# Altium schematic symbol library TMDX654GPEVM.SCHLIB: 339 symbols (part 6 of 6)
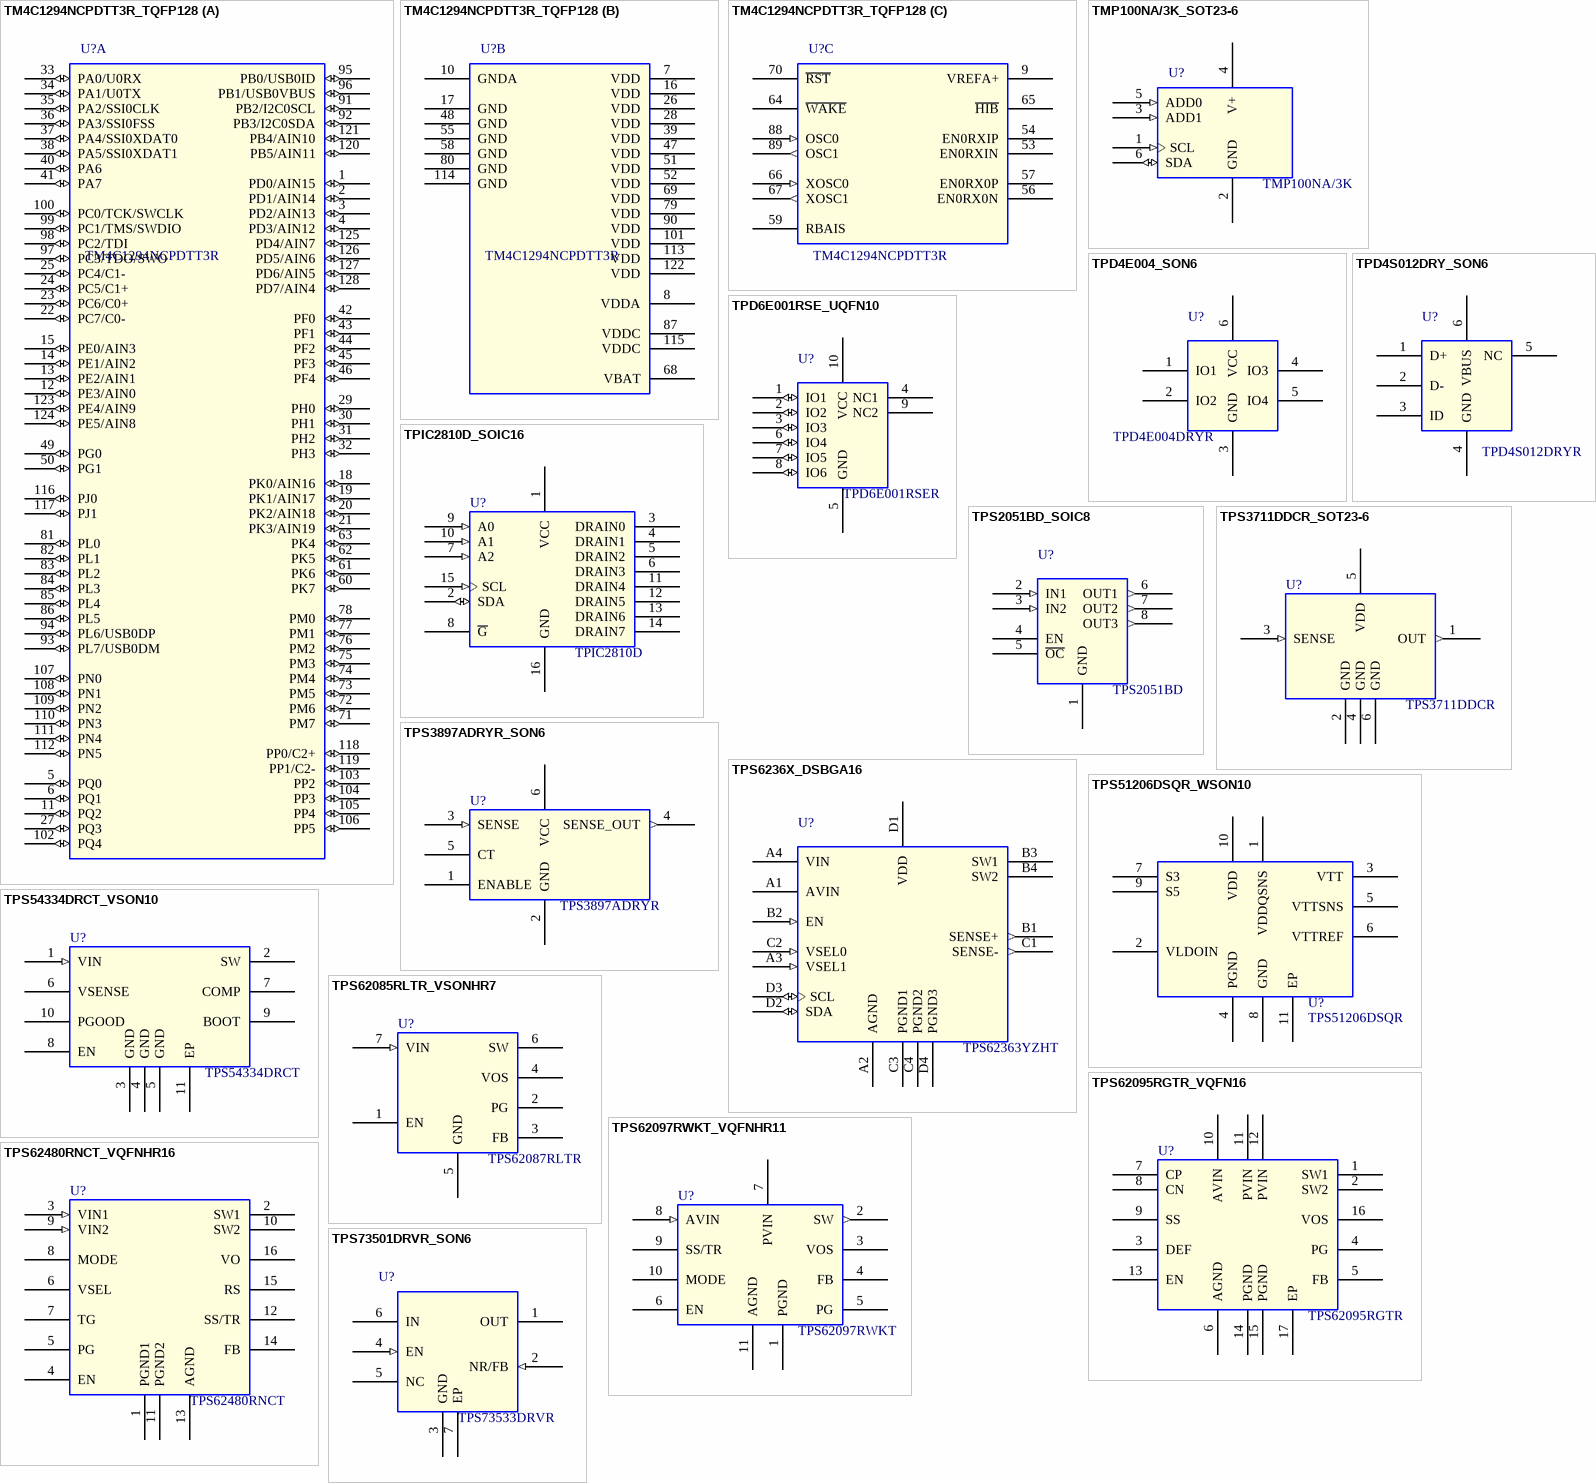
[diagram p25: symbols TM4C1294NCPDTT3R_TQFP128 to TPS73501DRVR_SON6]

## TPS51206DSQR_WSON10
designator U?, comment TPS51206DSQR
IC SINK/SOURCE DDR TERMINATION REGULATOR WSON10; Mistral Part No: 142017090016-R; Mfr_name: TEXAS INSTRUMENTS; Part_type: ICS\POWER\VOLTAGE REGULATOR; Project: TI_MAXIE_CPB; Tolerance: NA; Customs_HS_Code: 85423100; Custom_Duty: 15%; MECHANICAL 3D STEP FILE: DFN10_15-74_80X80_0-8; Library Ref: TPS51206DSQR_WSON10; Mfr_part_number: TPS51206DSQR; Voltage: NA; Wattage: NA; Package: WSON10; Distributor_name: DIGIKEY; Distributor_part_number: 296-28767-1-ND; Height: 0.80MM; Weight: NA; Temperature: -40°C+85°C; Datasheet: Y:\MIS_DATABASE\DATASHEETS\ICS\POWER\TPS51206.PDF; Crtd /date: MANIRAJA/220917; Chkd/date: MANIRAJA/220917; PCB Footprint: DFN10_15-74_80X80_0-8
footprint DFN10_15-74_80X80_0-8
pins: 1 VDDQSNS (power), 2 VLDOIN, 3 VTT, 4 PGND (power), 5 VTTSNS, 6 VTTREF, 7 S3, 8 GND (power), 9 S5, 10 VDD (power), 11 EP (power)

## TPS54334DRCT_VSON10
designator U?, comment TPS54334DRCT
IC 3A O/P CURRENT SYNCHRONOUS STEP DOWN VOLTAGE CONVERTER VSON10; Part_type: ICS\POWER\CONVERTER; Mfr_name: TEXAS INSTRUMENTS; Mistral Part No: 142017090024-R; MECHANICAL 3D STEP FILE: SON10_19-68_125X125_1; Custom_Duty: 15%; Customs_HS_Code: 85423100; Wattage: NA; Project: TI_MAXIE_CPB; Library Ref: TPS54334DRCT_VSON10; Chkd/date: MANIRAJA/270917; Crtd /date: MANIRAJA/270917; Datasheet: Y:\MIS_DATABASE\DATASHEETS\ICS\POWER\TPS54334.PDF; Temperature: -40°C+85°C; Weight: 30mg; Height: 1.00MM; Distributor_part_number: 296-42172-2-ND; Distributor_name: DIGIKEY; Package: VSON10; Voltage: NA; Tolerance: NA; Mfr_part_number: TPS54334DRCT; PCB Footprint: SON10_19-68_125X125_1
footprint SON10_19-68_125X125_1
pins: 1 VIN (in), 2 SW, 3 GND (power), 4 GND (power), 5 GND (power), 6 VSENSE, 7 COMP, 8 EN, 9 BOOT, 10 PGOOD, 11 EP (power)

## TPS62085RLTR_VSONHR7
designator U?, comment TPS62087RLTR
IC 3A STEP DOWN CONVERTER WITH SHORT CIRCUIT PROTECTION VSON-HR7; Part_type: ICS\POWER\CONVERTER; Mfr_name: TEXAS INSTRUMENTS; Mistral Part No: 142017100006-R; MECHANICAL 3D STEP FILE: VSONHR7_TPS62085_80X80_1; Custom_Duty: 15%; Customs_HS_Code: 85423100; Wattage: NA; Project: TI_MAXIE_CPB; Chkd/date: MANIRAJA/051017; Crtd /date: MANIRAJA/051017; Datasheet: Y:\MIS_DATABASE\DATASHEETS\ICS\POWER\TPS62085.PDF; Temperature: -40°C+125°C; Weight: NA; Height: 1.00MM; Distributor_part_number: 296-40832-1-ND; Distributor_name: DIGIKEY; Package: VSON-HR7; Voltage: NA; Tolerance: NA; Mfr_part_number: TPS62087RLTR; PCB Footprint: VSONHR7_TPS62085_80X80_1; Library Ref: TPS62085RLTR_VSONHR7
footprint VSONHR7_TPS62085_80X80_1
pins: 1 EN, 2 PG, 3 FB, 4 VOS, 5 GND (power), 6 SW, 7 VIN (in)

## TPS62095RGTR_VQFN16
designator U?, comment TPS62095RGTR
IC 4A STEP DOWN CONVERTER WITH DCS CONTROL VQFN16; Part_type: ICS\POWER\CONVERTER; Mfr_name: TEXAS INSTRUMENTS; Mistral Part No: 142017100001-R; MECHANICAL 3D STEP FILE: QFN16_19-68_120X120_1; Custom_Duty: 15%; Customs_HS_Code: 85423100; Wattage: NA; Project: TI_MAXIE_CPB; Library Ref: TPS62095RGTR_VQFN16; Chkd/date: MANIRAJA/031017; Crtd /date: MANIRAJA/031017; Datasheet: Y:\MIS_DATABASE\DATASHEETS\ICS\POWER\TPS62095.PDF; Temperature: -40°C+85°C; Weight: NA; Height: 1.00MM; Distributor_part_number: 296-40833-1-ND; Distributor_name: DIGIKEY; Package: VQFN16; Voltage: NA; Tolerance: NA; Mfr_part_number: TPS62095RGTR; PCB Footprint: QFN16_19-68_120X120_1
footprint QFN16_19-68_120X120_1
pins: 1 SW1, 2 SW2, 3 DEF, 4 PG, 5 FB, 6 AGND (power), 7 CP, 8 CN, 9 SS, 10 AVIN (power), 11 PVIN (power), 12 PVIN (power), 13 EN, 14 PGND (power), 15 PGND (power), 16 VOS, 17 EP (power)

## TPS62097RWKT_VQFNHR11
designator U?, comment TPS62097RWKT
IC 2A SYNCHRONOUS STEP DOWN CONVERTER WITH IDCS CONTROL VQFN-HR11; Part_type: ICS\POWER\CONVERTER; Mfr_name: TEXAS INSTRUMENTS; Mistral Part No: 142017090025-R; PCB Footprint: VQFNHR11_TPS62097_80X80_1; Custom_Duty: 15%; Customs_HS_Code: 85423100; Wattage: NA; Project: TI_MAXIE_CPB; MECHANICAL 3D STEP FILE: VQFNHR11_TPS62097_80X80_1; Chkd/date: MANIRAJA/270917; Crtd /date: MANIRAJA/270917; Datasheet: Y:\MIS_DATABASE\DATASHEETS\ICS\POWER\TPS62097.PDF; Temperature: -40°C+125°C; Weight: NA; Height: 1.00MM; Distributor_part_number: 296-43330-1-ND; Distributor_name: DIGIKEY; Package: VQFN-HR11; Voltage: NA; Tolerance: NA; Mfr_part_number: TPS62097RWKT; Library Ref: TPS62097RWKT_VQFNHR11
footprint VQFNHR11_TPS62097_80X80_1
pins: 1 PGND (power), 2 SW (out), 3 VOS, 4 FB, 5 PG, 6 EN, 7 PVIN (power), 8 AVIN (in), 9 SS/TR, 10 MODE, 11 AGND (power)

## TPS62480RNCT_VQFNHR16
designator U?, comment TPS62480RNCT
IC 2-PHASE STEP DOWN DC-DC CONVERTER VQFN-HR16; Mistral Part No: 142017090012-R; Mfr_name: TEXAS INSTRUMENTS; Part_type: ICS\POWER\DC-DC CONVERTER; Project: TI_MAXIE_CPB; Tolerance: NA; Customs_HS_Code: 85423100; Custom_Duty: 15%; MECHANICAL 3D STEP FILE: VQFNHR16_TPS62480_100X120_1; Mfr_part_number: TPS62480RNCT; Voltage: NA; Wattage: NA; Package: VQFN-HR16; Distributor_name: DIGIKEY; Distributor_part_number: 296-43867-1-ND; Height: 1.00MM; Weight: 46mg; Temperature: -40°C+125°C; Datasheet: Y:\MIS_DATABASE\DATASHEETS\ICS\POWER\TPS62480R.PDF; Crtd /date: MANIRAJA/220917; Chkd/date: MANIRAJA/220917; PCB Footprint: VQFNHR16_TPS62480_100X120_1; Library Ref: TPS62480RNCT_VQFNHR16
footprint VQFNHR16_TPS62480_100X120_1
pins: 1 PGND1 (power), 2 SW1, 3 VIN1 (in), 4 EN, 5 PG, 6 VSEL, 7 TG, 8 MODE, 9 VIN2 (in), 10 SW2, 11 PGND2 (power), 12 SS/TR, 13 AGND (power), 14 FB, 15 RS, 16 VO

## TPS73501DRVR_SON6
designator U?, comment TPS73533DRVR
IC 500mA LOW DROPOUT REGULATOR SON6; Mistral Part No: 142014100001-R; Mfr_name: TEXAS INSTRUMENTS; Part_type: ICS\POWER\VOLTAGE REGULATOR; Project: BLUETOOTH_WATCH; Tolerance: NA; Customs_HS_Code: 85423100; Custom_Duty: 15%; PCB Footprint: SON6_25-59_85X85; Mfr_part_number: TPS73533DRVR; Voltage: NA; Wattage: NA; Package: SON6; Distributor_name: DIGIKEY; Distributor_part_number: TPS73533DRVR-ND; Height: 0.80MM; Weight: NA; Temperature: -40°C+125°C; Datasheet: Y:\MIS_DATABASE\DATASHEETS\ICS\POWER\TPS735.PDF; Crtd /date: NAVEED/011014; Chkd/date: VASANTHA/280915; Library Ref: TPS73501DRVR_SON6
footprint SON6_25-59_85X85
pins: 1 OUT (power), 2 NR/FB (in), 3 GND (power), 4 EN (in), 5 NC, 6 IN (power), 7 EP (power)

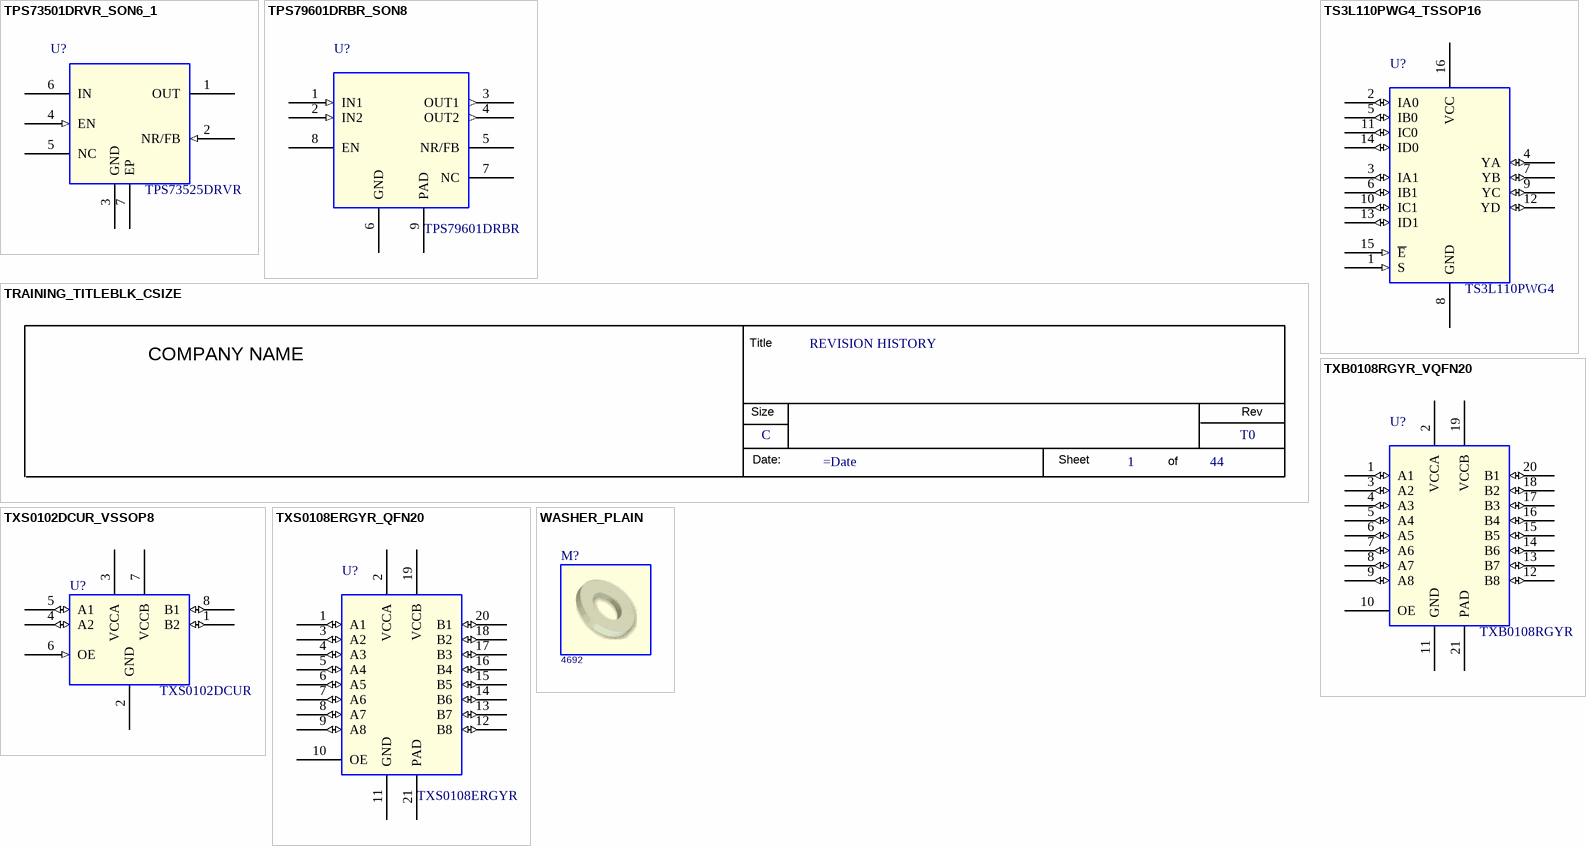
[diagram p20: symbols TPS73501DRVR_SON6_1 to WASHER_PLAIN]

## TPS73501DRVR_SON6_1
designator U?, comment TPS73525DRVR
IC 500mA LOW DROPOUT HIGH PSRR LINEAR REGULATOR SON6; Part_type: ICS\POWER\VOLTAGE REGULATOR; Mfr_name: TEXAS INSTRUMENTS; Mistral Part No: 142017110007-R; MECHANICAL 3D STEP FILE: SON6_25-59_85X85_0-8; Custom_Duty: 15%; Customs_HS_Code: 85423100; Wattage: NA; Project: TI_MAXIE_CPB; Library Ref: TPS73501DRVR_SON6; Chkd/date: MANIRAJA/161117; Crtd /date: MANIRAJA/161117; Datasheet: Y:\MIS_DATABASE\DATASHEETS\ICS\POWER\TPS735.PDF; Temperature: -40°C+125°C; Weight: 9.7mg; Height: 0.80MM; Distributor_part_number: 296-27480-1-ND; Distributor_name: DIGIKEY; Package: SON6; Voltage: NA; Tolerance: NA; Mfr_part_number: TPS73525DRVR; PCB Footprint: SON6_25-59_85X85_0-8
footprint SON6_25-59_85X85_0-8
pins: 1 OUT (power), 2 NR/FB (in), 3 GND (power), 4 EN (in), 5 NC, 6 IN (power), 7 EP (power)

## TPS79601DRBR_SON8
designator U?, comment TPS79601DRBR
IC 1A HIGH PSRR RF ADJ LDO LINEAR REGULATOR SON8; Mistral Part No: 142009080012-R; Mfr_name: TEXAS INSTRUMENTS; Part_type: ICS\POWER\VOLTAGE REGULATOR; MECHANICAL 3D STEP FILE: SON8_25-59_130X130_1; Wattage: NA; Project: DIO_TXRX; Customs_HS_Code: 85423100; Custom_Duty: 15%; Footprint Path: Y:\MIS_DATABASE\Library\ALTIUM_TOOL\PCB_FOOTPRINTS\Altium_Footprint_Lib.PcbLib; Library Path: Y:\MIS_DATABASE\Library\ALTIUM_TOOL\SCHEMATICS_PARTS\MS_MISCPOWER_Library.schlib; PCB Footprint: SON8_25-59_130X130_1; Voltage: NA; Tolerance: NA; Mfr_part_number: TPS79601DRBR; Package: SON8; Distributor_name: DIGIKEY; Distributor_part_number: 296-23107-1-ND; Height: 1.00MM; Weight: 24mg; Temperature: -40°C+125°C; Datasheet: Y:\MIS_DATABASE\DATASHEETS\MISC\REGULATORS\TPS796XX.PDF; Crtd /date: MAZHAR/280809; Chkd/date: MANIRAJA/030518; Library Ref: TPS79601DRBR_SON8; Footprint Ref: SON8_25-59_130X130_1
footprint SON8_25-59_130X130_1
pins: 1 IN1 (in), 2 IN2 (in), 3 OUT1 (out), 4 OUT2 (out), 5 NR/FB, 6 GND (power), 7 NC, 8 EN, 9 PAD (power)

## TRAINING_TITLEBLK_CSIZE
designator *?  RevCode: T0  Title: REVISION HISTORY  Page Size: C  Page Number: 1  Page Count: 44  (hidden comment: TRAINING_TITLEBLK_CSIZE)  (graphical)
Issue: 1.0; Page Create Date: Jan  8, 2022; Page Modify Date: =Date
text: Title; COMPANY NAME; Size; Rev; Date:; Sheet; of

## TS3L110PWG4_TSSOP16
designator U?, comment TS3L110PWG4
IC QUAD SPDT SWITCH 8-4 CHANNEL MULTIPLEXER/DEMULTIPLEXER TSSOP16; Mistral Part No: 140114110002-R; Mfr_name: TEXAS INSTRUMENTS; Part_type: ICS\ANALOG\APPLICATION SPECIFIC; PCB Footprint: TSSOP16_25-59_205X180; Project: GALILEO EVM; Tolerance: NA; Customs_HS_Code: 85369090; Custom_Duty: 15%; Library Ref: TS3L110PWG4_TSSOP16; Mfr_part_number: TS3L110PWG4; Voltage: NA; Wattage: NA; Package: TSSOP16; Distributor_name: DIGIKEY; Distributor_part_number: TS3L110PWG4-ND; Height: 1.20MM; Weight: NA; Temperature: -40°C+85°C; Datasheet: Y:\MIS_DATABASE\DATASHEETS\ICS\DIGITAL\COMBINATIONAL\TS3L110_SERIES.PDF; Crtd /date: JEBRAN/051114; Chkd/date: NAVEED/060115
footprint TSSOP16_25-59_205X180
pins: 1 S (in), 2 IA0 (io), 3 IA1 (io), 4 YA (io), 5 IB0 (io), 6 IB1 (io), 7 YB (io), 8 GND (power), 9 YC (io), 10 IC1 (io), 11 IC0 (io), 12 YD (io), 13 ID1 (io), 14 ID0 (io), 15 ~{E} (in), 16 VCC (power)

## TXB0108RGYR_VQFN20
designator U?, comment TXB0108RGYR
IC 8-BIT TRANSLATOR 15KV ESD VQFN20; Mistral Part No: 141010050005-R; Mfr_name: TEXAS INSTRUMENTS; Part_type: ICS\INTERFACE; Project: SHIVA; Tolerance: NA; Customs_HS_Code: 85423100; Custom_Duty: 15%; MECHANICAL 3D STEP FILE: QFN20_19-68_185X145_1; Mfr_part_number: TXB0108RGYR; Voltage: NA; Wattage: NA; Package: VQFN20; Distributor_name: DIGIKEY; Distributor_part_number: 296-21528-1-ND; Height: 1.00MM; Weight: 43mg; Temperature: -40°C+85°C; Datasheet: Y:\MIS_DATABASE\DATASHEETS\ICS\INTERFACE\TXB0108RGYR.PDF; Crtd /date: MUDDU/190510; Chkd/date: VASANTHA/221216; RoHS: Sb/ Br FREE; PCB Footprint: QFN20_19-68_185X145_1; Library Ref: TXB0108RGYR_VQFN20
footprint QFN20_19-68_185X145_1
pins: 1 A1 (io), 2 VCCA (power), 3 A2 (io), 4 A3 (io), 5 A4 (io), 6 A5 (io), 7 A6 (io), 8 A7 (io), 9 A8 (io), 10 OE, 11 GND (power), 12 B8 (io), 13 B7 (io), 14 B6 (io), 15 B5 (io), 16 B4 (io), 17 B3 (io), 18 B2 (io), 19 VCCB (power), 20 B1 (io), 21 PAD (power)

## TXS0102DCUR_VSSOP8
designator U?, comment TXS0102DCUR
IC 2BIT BI-DIR VOLTAGE-LEVEL TRANSLATOR US8(VSSOP8); Part_type: ICS\INTERFACE\LEVEL TRANSLATOR; Mfr_name: TEXAS INSTRUMENTS; Mistral Part No: 141009030376-R; MECHANICAL 3D STEP FILE: VSSOP8_19-68_85X95_0-9; Custom_Duty: 15%; Customs_HS_Code: 85423100; Wattage: NA; Project: SD_WATERLOO; Footprint Path: Y:\MIS_DATABASE\Library\ALTIUM_TOOL\PCB_FOOTPRINTS\Altium_Footprint_Lib.PcbLib; Library Path: Y:\MIS_DATABASE\Library\ALTIUM_TOOL\SCHEMATICS_PARTS\MS_MISCINTERFACE_Library.schlib; Chkd/date: MANIRAJA/130617; Crtd /date: SHREESHAIL/190108; Datasheet: Y:\MIS_DATABASE\DATASHEETS\ICS\INTERFACE\TXS0102.PDF; Temperature: -40°C+85°C; Weight: 9.6mg; Height: 0.90MM; Distributor_part_number: 296-21931-1-ND; Distributor_name: DIGIKEY; Package: US8; Voltage: NA; Tolerance: NA; Mfr_part_number: TXS0102DCUR; PCB Footprint: VSSOP8_19-68_85X95_0-9; Library Ref: TXS0102DCUR_VSSOP8; Footprint Ref: VSSOP8_19-68_85X95_0-9
footprint VSSOP8_19-68_85X95_0-9
pins: 1 B2 (io), 2 GND (power), 3 VCCA (power), 4 A2 (io), 5 A1 (io), 6 OE (in), 7 VCCB (power), 8 B1 (io)

## TXS0108ERGYR_QFN20
designator U?, comment TXS0108ERGYR
IC TRANSLATOR BIDIRECTIONAL VOLTAGE-LEVEL 8BIT QFN20; Mistral Part No: 141011040019-R; Mfr_name: TEXAS INSTRUMENTS; Part_type: ICS\INTERFACE; Project: OMAPL1_PEC20; Tolerance: NA; Customs_HS_Code: 85423100; Custom_Duty: 15%; MECHANICAL 3D STEP FILE: QFN20_19-68_185X145_1; Mfr_part_number: TXS0108ERGYR; Voltage: NA; Wattage: NA; Package: QFN20; Distributor_name: DIGIKEY; Distributor_part_number: 296-24806-1-ND; Height: 1.00MM; Weight: 43mg; Temperature: -40°C+85°C; Datasheet: Y:\MIS_DATABASE\DATASHEETS\ICS\INTERFACE\TXS0108E.PDF; Crtd /date: BAVISH/280411; Chkd/date: VASANTHA/060117; PCB Footprint: QFN20_19-68_185X145_1; Library Ref: TXS0108ERGYR_QFN20
footprint QFN20_19-68_185X145_1
pins: 1 A1 (io), 2 VCCA (power), 3 A2 (io), 4 A3 (io), 5 A4 (io), 6 A5 (io), 7 A6 (io), 8 A7 (io), 9 A8 (io), 10 OE, 11 GND (power), 12 B8 (io), 13 B7 (io), 14 B6 (io), 15 B5 (io), 16 B4 (io), 17 B3 (io), 18 B2 (io), 19 VCCB (power), 20 B1 (io), 21 PAD (power)

## WASHER_PLAIN
designator M?, comment Mfr_part_number: 4692  (hidden comment: PLAIN WASHER_M3)
PLAIN WASHER FOR M3 SS-316; Part_type: MECHANICAL\WASHERS; Mfr_name: KEYSTONE; Mistral Part No: 160018020078-R; MECHANICAL 3D STEP FILE: NA; Project: TI_MAXIE_CPB; Footprint Path: Y:\MIS_DATABASE\Library\ALTIUM_TOOL\PCB_FOOTPRINTS\Altium_Footprint_Lib.PcbLib; Library Path: Y:\MIS_DATABASE\Library\ALTIUM_TOOL\SCHEMATICS_PARTS\MS_MECHANICAL_Library.schlib; Chkd/date: MANIRAJA/190218; Crtd /date: MANIRAJA/190218; Datasheet: Y:\MIS_DATABASE\DATASHEETS\MISC\MECHANICAL\4692.PDF; Temperature: NA; Weight: NA; Height: NA; Footprint Ref: NA; Library Ref: WASHER_PLAIN; Distributor_part_number: 36-4692-ND; Distributor_name: DIGIKEY; Package: SS; Wattage: NA; Voltage: NA; Tolerance: NA; PCB Footprint: NA
footprint NA